# Altium schematic symbol library APT1608SURCK.SchLib: 1 symbol
Pins are listed as number, name and electrical type; pins without a type are passive.

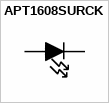
[diagram p0: symbol APT1608SURCK]

## APT1608SURCK
designator ?
LED 1.6X0.8MM 630NM RED CLR SMD
pins: A, C